# Altium footprint library HydrogreenPcbLibrary.PcbLib: 34 footprints (part 3 of 3)
Each footprint in its own frame and in the unit in brackets; x right, y up, seen from the top. Pads: shape width x height; smd on the part's side, far side on the other; paste and mask are expansions set on the pad; w line width, h text height; cw(c..) or ccw(c..) is an arc to the next point about the centre after c.
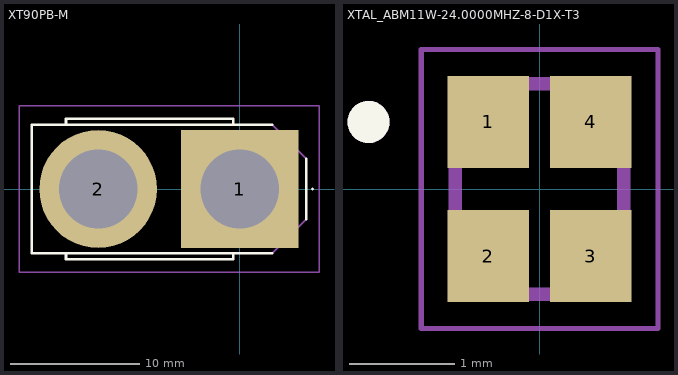
[diagram p2: the footprints below, top view; thin cyan lines are the x and y axes]

## XT90PB-M [mm]
pads (2):
  rect 9.15x9.15 hole 6.1: 1(0,0)
  round 9.15 hole 6.1: 2(-11,0)
Top Overlay:
  lines w0.1: 5.6,0 ccw(c5.65,0) 5.7,0 ccw(c5.65,0) 5.6,0
  lines w0.2: -13.5,-5 -13.5,-5.45 -0.5,-5.45 -0.5,-5 ; -13.5,5 -13.5,5.45 -0.5,5.45 -0.5,5 ; 2.5,-5 -16.15,-5 -16.15,5 2.5,5 ; 5.15,-2.35 5.15,2.35
Top Courtyard:
  lines w0.1: -13.5,-5 -13.5,-5.45 -0.5,-5.45 -0.5,-5 ; -13.5,5 -13.5,5.45 -0.5,5.45 -0.5,5 ; -16.15,-5 -5.5,-5 2.5,-5 5.15,-2.35 5.15,2.35 2.5,5 -16.15,5 -16.15,-5
Bottom Assembly (Mech20):
  lines w0.1: -17.15,-6.45 -17.15,6.45 6.15,6.45 6.15,-6.45 -17.15,-6.45
3D body "XT90PB-M.stp": height 20.86, standoff -5.54, extent -16.161,-5.466 5.239,5.334

## XTAL_ABM11W-24.0000MHZ-8-D1X-T3 [mm]
height 0.5
pads (4):
  rect 0.775x0.875 smd: 1(-0.487,0.637) 2(-0.487,-0.637) 3(0.487,-0.637) 4(0.487,0.637)
Top Overlay:
  circle w0.2: c-1.625,0.637 r0.1
Top 3D Body:
  circle w0.2: c-1.625,0.637 r0.1
  lines w0.127: -0.8,-1 -0.8,1 0.8,1 0.8,-1 -0.8,-1
Top Courtyard:
  lines w0.05: -1.125,-1.325 -1.125,1.325 1.125,1.325 1.125,-1.325 -1.125,-1.325
3D body "step_temp.STEP": height 0.5, standoff 0, extent -1,-0.8 1,0.8